# Altium schematic symbol library KNR_Kurs.SchLib: 163 symbols (part 2 of 2)
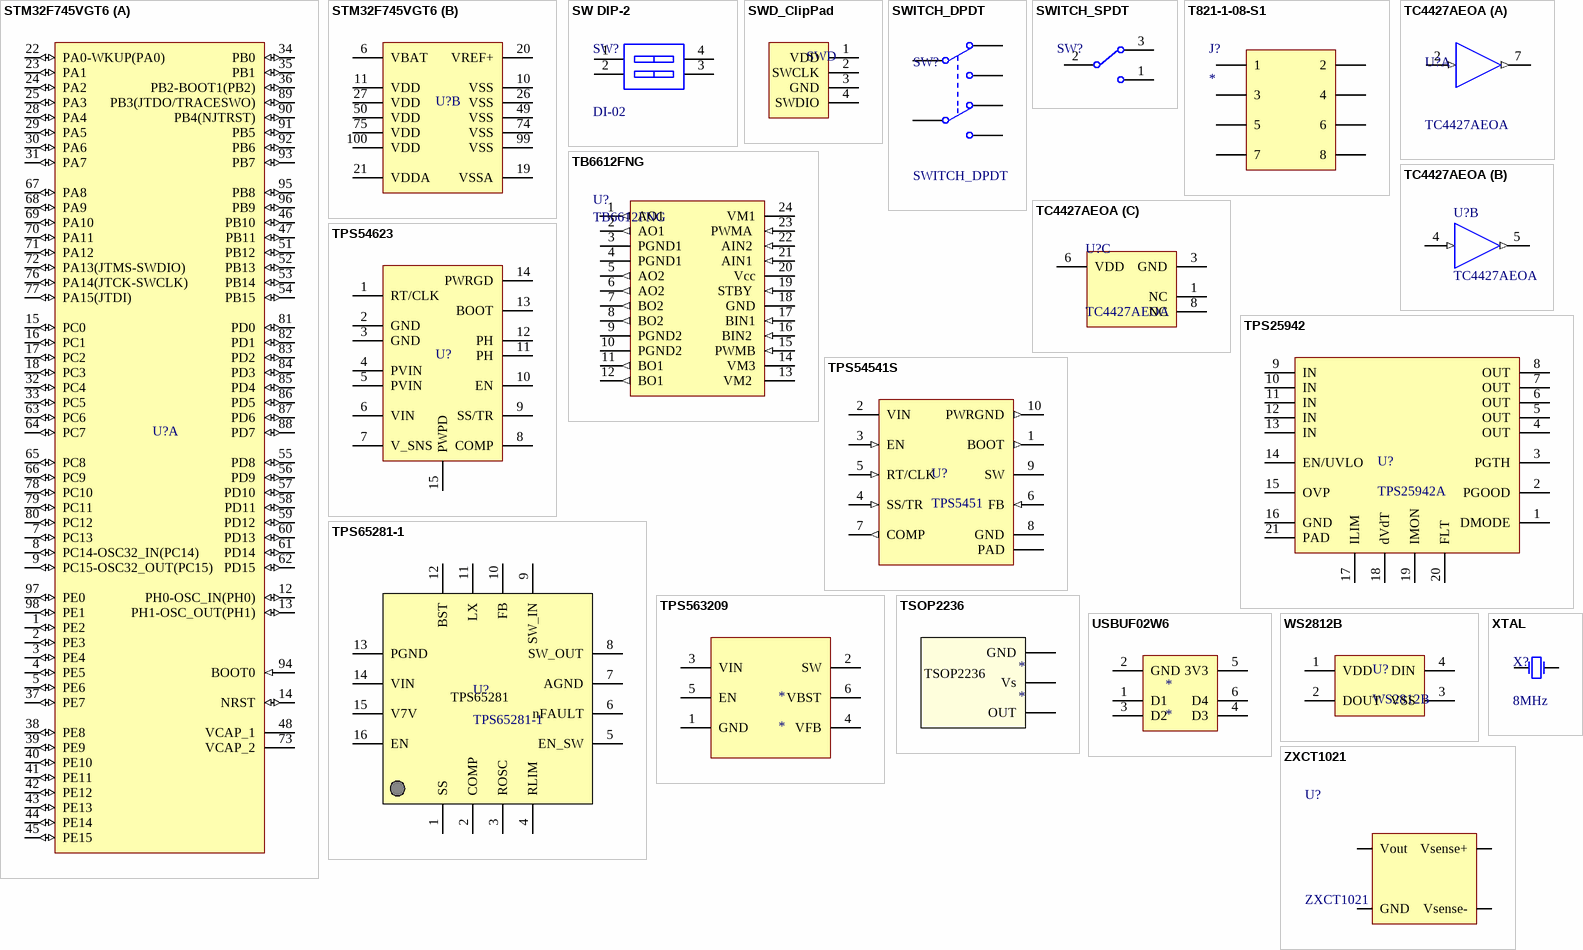
[diagram p5: symbols STM32F745VGT6 to ZXCT1021]

## STM32F745VGT6
designator U?
ARM Cortex-M7 32-bit MCU+S-FPU, 462 DMIPS, 1024 kB Flash, 320 kB Internal RAM, 82 I/Os, 100-pin LQFP, -40 to 85 degC, Tray
footprint STM-LQFP100_N (Thin QFP, 100-Leads, Body 14x14mm, Pitch 0.5mm, IPC Medium Density)
footprint STM-LQFP100_L (Thin QFP, 100-Leads, Body 14x14mm, Pitch 0.5mm, IPC High Density)
footprint STM-LQFP100_M (Thin QFP, 100-Leads, Body 14x14mm, Pitch 0.5mm, IPC Low Density)
footprint STM-LQFP100_V (Thin QFP, 100-Leads, Body 14x14mm, Pitch 0.5mm, ST Recommended)
part A pins: 1 PE2 (io) "PE2/TRACECLK,FSMC_A23,ETH_MII_TXD3,EVENTOUT,SPI4_SCK", 2 PE3 (io) "PE3/TRACED0,FSMC_A19,EVENTOUT,SPI4_NSS", 3 PE4 (io) "PE4/TRACED1,FSMC_A20,DCMI_D4,EVENTOUT,SPI4_NSS", 4 PE5 (io) "PE5/TRACED2,FSMC_A21,TIM9_CH1,DCMI_D6,EVENTOUT,SPI4_MISO", 5 PE6 (io) "PE6/TRACED3,FSMC_A22,TIM9_CH2,DCMI_D7,EVENTOUT,SPI4_MOSI", 7 PC13 (io) "PC13/EVENTOUT/RTC_OUT,RTC_TAMP1,RTC_TS", 8 PC14-OSC32_IN(PC14) (io) "PC14-OSC32_IN(PC14)/EVENTOUT/OSC32_IN", 9 PC15-OSC32_OUT(PC15) (io) "PC15-OSC32_OUT(PC15)/EVENTOUT/OSC32_OUT", 12 PH0-OSC_IN(PH0) (io) "PH0-OSC_IN(PH0)/EVENTOUT/OSC_IN", 13 PH1-OSC_OUT(PH1) (io) "PH1-OSC_OUT(PH1)/EVENTOUT/OSC_OUT", 14 NRST (io), 15 PC0 (io) "PC0/OTG_HS_ULPI_STP,EVENTOUT/ADC123_IN10", 16 PC1 (io) "PC1/ETH_MDC,EVENTOUT/ADC123_IN11", 17 PC2 (io) "PC2/SPI2_MISO,OTG_HS_ULPI_DIR,ETH_MII_TXD2,I2S2ext_SD,EVENTOUT/ADC123_IN12", 18 PC3 (io) "PC3/SPI2_MOSI/I2S2_SD,OTG_HS_ULPI_NXT,ETH_MII_TX_CLK,EVENTOUT/ADC123_IN13", 22 PA0-WKUP(PA0) (io) "PA0-WKUP(PA0)/USART2_CTS,UART4_TX,ETH_MII_CRS,TIM2_CH1_ETR,TIM5_CH1,TIM8_ETR,EVENTOUT/ADC123_IN0,WKUP", 23 PA1 (io) "PA1/USART2_RTS,UART4_RX,ETH_RMII_REF_CLK,ETH_MII_RX_CLK,TIM5_CH2,TIMM2_CH2,EVENTOUT/ADC123_IN1", 24 PA2 (io) "PA2/USART2_TX,TIM5_CH3,TIM9_CH1,TIM2_CH3,ETH_MDIO,EVENTOUT/ADC123_IN2", 25 PA3 (io) "PA3/USART2_RX,TIM5_CH4,TIM9_CH2,TIM2_CH4,OTG_HS_ULPI_D0,ETH_MII_COL,EVENTOUT/ADC123_IN3", 28 PA4 (io) "PA4/SPI1_NSS,SPI3_NSS,USART2_CK,DCMI_HSYNC,OTG_HS_SOF,I2S3_WS,EVENTOUT/ADC12_IN4,DAC1_OUT", 29 PA5 (io) "PA5/SPI1_SCK,OTG_HS_ULPI_CK,TIM2_CH1_ETR,TIM8_CH1N,EVENTOUT/ADC12_IN5,DAC2_OUT", 30 PA6 (io) "PA6/SPI1_MISO,TIM8_BKIN,TIM13_CH1,DCMI_PIXCLK,TIM3_CH1,TIM1_BKIN,EVENTOUT/ADC12_IN6", 31 PA7 (io) "PA7/SPI1_MOSI,TIM8_CH1N,TIM14_CH1,TIM3_CH2,ETH_MII_RX_DV,TIM1_CH1N,ETH_RMII_CRS_DV,EVENTOUT/ADC12_IN7", 32 PC4 (io) "PC4/ETH_RMII_RX_D0,ETH_MII_RX_D0,EVENTOUT/ADC12_IN14", 33 PC5 (io) "PC5/ETH_RMII_RX_D1,ETH_MII_RX_D1,EVENTOUT/ADC12_IN15", 34 PB0 (io) "PB0/TIM3_CH3,TIM8_CH2N,OTG_HS_ULPI_D1,ETH_MII_RXD2,TIM1_CH2N,EVENTOUT/ADC12_IN8", 35 PB1 (io) "PB1/TIM3_CH4,TIM8_CH3N,OTG_HS_ULPI_D2,ETH_MII_RXD3,TIM1_CH3N,EVENTOUT/ADC12_IN9", 36 PB2-BOOT1(PB2) (io) "PB2-BOOT1(PB2)/EVENTOUT", 37 PE7 (io) "PE7/FSMC_D4,TIM1_ETR,EVENTOUT,UART7_RX", 38 PE8 (io) "PE8/FSMC_D5,TIM1_CH1N,EVENTOUT,UART7_TX", 39 PE9 (io) "PE9/FSMC_D6,TIM1_CH1,EVENTOUT", 40 PE10 (io) "PE10/FSMC_D7,TIM1_CH2N,EVENTOUT", 41 PE11 (io) "PE11/FSMC_D8,TIM1_CH2,EVENTOUT,SPI4_NSS", 42 PE12 (io) "PE12/FSMC_D9,TIM1_CH3N,EVENTOUT,SPI4_SCK", 43 PE13 (io) "PE13/FSMC_D10,TIM1_CH3,EVENTOUT,SPI4_MISO", 44 PE14 (io) "PE14/FSMC_D11,TIM1_CH4,EVENTOUT,SPI4_MOSI", 45 PE15 (io) "PE15/FSMC_D12,TIM1_BKIN,EVENTOUT", 46 PB10 (io) "PB10/SPI2_SCK/I2S2_CK,I2C2_SCL,USART3_TX,OTG_HS_ULPI_D3,ETH_MII_RX_ER,TIM2_CH3,EVENTOUT", 47 PB11 (io) "PB11/I2C2_SDA,USART3_RX,OTG_HS_ULPI_D4,ETH_RMII_TX_EN,ETH_MII_TX_EN,TIM2_CH4,EVENTOUT", 48 VCAP_1 (power), 51 PB12 (io) "PB12/SPI2_NSS/I2S2_WS,I2C2_SMBA,USART3_CK,TIM1_BKIN,CAN2_RX,OTG_HS_ULPI_D5,ETH_RMII_TXD0,ETH_MII_TXD0,OTG_HS_ID,EVENTOUT", 52 PB13 (io) "PB13/SPI2_SCK/I2S2_CK,USART3_CTS,TIM1_CH1N,CAN2_TX,OTG_HS_ULPI_D6,ETH_RMII_TXD1,ETH_MII_TXD1,EVENTOUT/OTG_HS_VBUS", 53 PB14 (io) "PB14/SPI2_MISO,TIM1_CH2N,TIM12_CH1,OTG_HS_DM,USART3_RTS,TIM8_CH2N,I2S2ext_SD,EVENTOUT", 54 PB15 (io) "PB15/SPI2_MOSI/I2S2_SD,TIM1_CH3N,TIM8_CH3N,TIM12_CH2,OTG_HS_DP,EVENTOUT,RTC_REFIN", 55 PD8 (io) "PD8/FSMC_D13,USART3_TX,EVENTOUT", 56 PD9 (io) "PD9/FSMC_D14,USART3_RX,EVENTOUT", 57 PD10 (io) "PD10/FSMC_D15,USART3_CK,EVENTOUT", 58 PD11 (io) "PD11/FSMC_CLE,FSMC_A16,USART3_CTS,EVENTOUT", 59 PD12 (io) "PD12/FSMC_ALE,FSMC_A17,TIM4_CH1,USART3_RTS,EVENTOUT", 60 PD13 (io) "PD13/FSMC_A18,TIM4_CH2,EVENTOUT", 61 PD14 (io) "PD14/FSMC_D0,TIM4_CH3,EVENTOUT", 62 PD15 (io) "PD15/FSMC_D1,TIM4_CH4,EVENTOUT", 63 PC6 (io) "PC6/I2S2_MCK,TIM8_CH1,SDIO_D6,USART6_TX,DCMI_D0,TIM3_CH1,EVENTOUT", 64 PC7 (io) "PC7/I2S3_MCK,TIM8_CH2,SDIO_D7,USART6_RX,DCMI_D1,TIM3_CH2,EVENTOUT", 65 PC8 (io) "PC8/TIM8_CH3,SDIO_D0,TIM3_CH3,USART6_CK,DCMI_D2,EVENTOUT", 66 PC9 (io) "PC9/I2S_CKIN,MCO2,TIM8_CH4,SDIO_D1,I2C3_SDA,DCMI_D3,TIM3_CH4,EVENTOUT", 67 PA8 (io) "PA8/MCO1,USART1_CK,TIM1_CH1,I2C3_SCL,OTG_FS_SOF,EVENTOUT", 68 PA9 (io) "PA9/USART1_TX,TIM1_CH2,I2C3_SMBA,DCMI_D0,EVENTOUT/OTG_FS_VBUS", 69 PA10 (io) "PA10/USART1_RX,TIM1_CH3,OTG_FS_ID,DCMI_D1,EVENTOUT", 70 PA11 (io) "PA11/USART1_CTS,CAN1_RX,TIM1_CH4,OTG_FS_DM,EVENTOUT", 71 PA12 (io) "PA12/USART1_RTS,CAN1_TX,TIM1_ETR,OTG_FS_DP,EVENTOUT", 72 PA13(JTMS-SWDIO) (io) "PA13(JTMS-SWDIO)/JTMS-SWDIO,EVENTOUT", 73 VCAP_2 (power), 76 PA14(JTCK-SWCLK) (io) "PA14(JTCK-SWCLK)/JTCK-SWCLK,EVENTOUT", 77 PA15(JTDI) (io) "PA15(JTDI)/JTDI,SPI3_NSS,I2S3_WS,TIM2_CH1_ETR,SPI1_NSS,EVENTOUT", 78 PC10 (io) "PC10/SPI3_SCK/I2S3_CK,UART4_TX,SDIO_D2,DCMI_D8,USART3_TX,EVENTOUT", 79 PC11 (io) "PC11/UART4_RX,SPI3_MISO,SDIO_D3,DCMI_D4,USART3_RX,I2S3ext_SD,EVENTOUT", 80 PC12 (io) "PC12/UART5_TX,SDIO_CK,DCMI_D9,SPI3_MOSI,I2S3_SD,USART3_CK,EVENTOUT", 81 PD0 (io) "PD0/FSMC_D2,CAN1_RX,EVENTOUT", 82 PD1 (io) "PD1/FSMC_D3,CAN1_TX,EVENTOUT", 83 PD2 (io) "PD2/TIM3_ETR,UART5_RX,SDIO_CMD,DCMI_D11,EVENTOUT", 84 PD3 (io) "PD3/FSMC_CLK,USART2_CTS,EVENTOUT,SPI2_SCK,I2S2_CK,DCMI_D5", 85 PD4 (io) "PD4/FSMC_NOE,USART2_RTS,EVENTOUT", 86 PD5 (io) "PD5/FSMC_NWE,USART2_TX,EVENTOUT", 87 PD6 (io) "PD6/FSMC_NWAIT,USART2_RX,EVENTOUT,SPI3_MOSI,I2S3_MOSI,DCMI_D10", 88 PD7 (io) "PD7/USART2_CK,FSMC_NE1,FSMC_NCE2,EVENTOUT", 89 PB3(JTDO/TRACESWO) (io) "PB3(JTDO/TRACESWO)/JTDO/TRACESWO,SPI3_SCK/I2S3_CK,TIM2_CH2,SPI1_SCK,EVENTOUT", 90 PB4(NJTRST) (io) "PB4(NJTRST)/NJTRST,SPI3_MISO,TIM3_CH1,SPI1_MISO,I2S3ext_SD,EVENTOUT", 91 PB5 (io) "PB5/I2C1_SMBA,CAN2_RX,OTG_HS_ULPI_D7,ETH_PPS_OUT,TIM3_CH2,SPI1_MOSI,SPI3_MOSI,DCMI_D10,I2S3_SD,EVENTOUT", 92 PB6 (io) "PB6/I2C1_SCL,TIM4_CH1,CAN2_TX,DCMI_D5,USART1_TX,EVENTOUT", 93 PB7 (io) "PB7/I2C1_SDA,FSMC_NL(NADV),DCMI_VSYNC,USART1_RX,TIM4_CH2,EVENTOUT", 94 BOOT0 (in) "BOOT0/VPP", 95 PB8 (io) "PB8/TIM4_CH3,SDIO_D4,TIM10_CH1,DCMI_D6,ETH_MII_TXD3,I2C1_SCL,CAN1_RX,EVENTOUT", 96 PB9 (io) "PB9/SPI2_NSS/I2S2_WS,TIM4_CH4,TIM11_CH1,SDIO_D5,DCMI_D7,I2C1_SDA,CAN1_TX,EVENTOUT", 97 PE0 (io) "PE0/TIM4_ETR,FSMC_NBL0,DCMI_D2,EVENTOUT,UART8_RX", 98 PE1 (io) "PE1/FSMC_NBL1,DCMI_D3,EVENTOUT,UART8_TX"
part B pins: 6 VBAT (power), 10 VSS (power), 11 VDD (power), 19 VSSA (power), 20 VREF+ (power), 21 VDDA (power), 26 VSS (power), 27 VDD (power), 49 VSS (power), 50 VDD (power), 74 VSS (power), 75 VDD (power), 99 VSS (power), 100 VDD (power)

## SW DIP-2
designator SW?, comment DI-02
DIP Switch, 2 Position, SPST; Published: 24-Mar-1999; LatestRevisionDate: 17-Jul-2002; LatestRevisionNote: Re-released for DXP Platform.; PackageReference: DIP-4; Publisher: Altium Limited
footprint DI-02 (DIP Switch, 2 Position, Package)
pins: 1 A1, 2 A2, 3 B2, 4 B1

## SWD_ClipPad
designator SWD  (value not drawn)
footprint SWD_Pad
pins: 1 VDD, 2 SWCLK, 3 GND, 4 SWDIO

## SWITCH_DPDT
designator SW?
Double pole, double throw; Published: 24-Mar-1999; LatestRevisionDate: 29-May-2009; LatestRevisionNote: IPC-7351 Footprint Added.; PackageVersion: Mar-2001; PackageReference: SOT23-6; Publisher: Altium Limited; PackageDescription: 6-Pin SOT-23 Package 0.95 mm Pitch, 2.7 mm Lead Span; Code_JEITA: SC-74; Code_IPC: SOT26A-6
footprint DPDT (Double pole, double throw)
footprint SS008B02P22 (Przełącznik suwakowy SS008B02P22)
pins: 1 COMMON1, 2 NC1, 3 NO1, 4 NC2, 5 COMMON2, 6 NO2

## SWITCH_SPDT
designator SW?  (value not drawn)
Single pole, double throw
footprint SP3T (SP3T ON-OFF-ON switch)
footprint ESP1010 (ON - ON Switch tht vertical)
footprint ESP2010 (ON - ON Switch tht)
pins: 1, 2, 3

## T821-1-08-S1
designator J?
Gniazdo; IDC; męskie; PIN:8; proste; THT; złocony; 2,54mm
footprint T821-1-08-S1 (T821-1-08-S1 8 Pin, Men)
pins: 1, 2, 3, 4, 5, 6, 7, 8

## TB6612FNG
designator U?
Driver IC for Dual DC motor
footprint SSOP24-P-300 (SSOP, 24-Leads, Body 8,3x5,8mm (max), Pitch 0,65mm, IPC Medium Density)
pins: 1 AO1 (out) "chA output1", 2 AO1 (out) "chA output1", 3 PGND1  "Power GND 1", 4 PGND1  "Power GND 1", 5 AO2  (out) "chA output2", 6 AO2  (out) "chA output2", 7 BO2  (out) "chB output2", 8 BO2  (out) "chB output2", 9 PGND2 "Power GND 2", 10 PGND2 "Power GND 2", 11 BO1 (out) "chB output1", 12 BO1 (out) "chB output1", 13 VM2  (power) "Motor supply(2.5V~13.5V)", 14 VM3 (power) "Motor supply(2.5V~13.5V)", 15 PWMB (in) "chB PWM input    /    200kOhm  pull-down at internal", 16  BIN2  (in) "chB input2    /    200k?  pull-down at internal", 17  BIN1 (in) "chB input    /    200k?  pull-down at internal", 18 GND "Small signal GND", 19 STBY  (in) "“L”=standby / 200k?  pull-down at internal", 20 Vcc "Small signal supply (2.7V~5.5V)", 21  AIN1  (in) "chA input1    /    200k?  pull-down at internal", 22  AIN2  (in) "chA input2    /    200k?  pull-down at internal", 23 PWMA  (in) "chA PWM input    /    200k?  pull-down at internal", 24 VM1 (power) "Motor supply(2.5V~13.5V)"

## TC4427AEOA
designator U?
1.5A Dual High-Speed Power MOSFET Driver, Non-Inverting, Industrial Temperature; FirstPublished: 29-Jan-2009; DatasheetVersion: revF, Jan-2006; PackageVersion: revBB, Aug-2009; PackageReference: SOIC-OA8; Publisher: Altium Limited; PackageDescription: 8-Lead Plastic Small Outline (OA) - Narrow, 3.90mm Body [SOIC]; Supplier 1: Digi-Key; Supplier Part Number 1: TC4427AEOA-ND; Supplier 2: Farnell; Supplier Part Number 2: 1292285; Supplier 3: Newark; Supplier Part Number 3: 96K4020; Code_IPC: SOIC127P600-8; ComponentLink1Description: Datasheet; ComponentLink1URL: http://ww1.microchip.com/downloads/en/DeviceDoc/21423F.pdf; ComponentLink2Description: Packaging Specification; ComponentLink2URL: http://www.microchip.com/stellent/groups/techpub_sg/documents/packagingspec/en012702.pdf; ComponentLink3Description: Microchip.com Home; ComponentLink3URL: http://www.microchip.com/
footprint SO-8_N
part A pins: 2 INA (in), 7 OUTA (out)
part B pins: 4 INB (in), 5 OUTB (out)
part C pins: 1 NC, 3 GND (power), 6 VDD (power), 8 NC

## TPS25942
designator U?, comment TPS25942A
footprint WQFN20
pins: 1 DMODE, 2 PGOOD, 3 PGTH, 4 OUT, 5 OUT, 6 OUT, 7 OUT, 8 OUT, 9 IN, 10 IN, 11 IN, 12 IN, 13 IN, 14 EN/UVLO, 15 OVP, 16 GND, 17 ILIM, 18 dVdT, 19 IMON, 20 FLT, 21 PAD

## TPS54541S
designator U?, comment TPS5451
footprint S-PWSON-N10
pins: 0 PAD, 1 BOOT (out), 2 VIN, 3 EN (in), 4 SS/TR (in), 5 RT/CLK (in), 6 FB (in), 7 COMP (out), 8 GND, 9 SW, 10 PWRGND (out)

## TPS54623
designator U?  (value not drawn)
footprint S-PVQFN-N14
pins: 1 RT/CLK, 2 GND, 3 GND, 4 PVIN, 5 PVIN, 6 VIN, 7 V_SNS, 8 COMP, 9 SS/TR, 10 EN, 11 PH, 12 PH, 13 BOOT, 14 PWRGD, 15 PWPD

## TPS65281-1
designator U?
pins: 1 SS, 2 COMP, 3 ROSC, 4 RLIM, 5 EN_SW, 6 nFAULT, 7 AGND, 8 SW_OUT, 9 SW_IN, 10 FB, 11 LX, 12 BST, 13 PGND, 14 VIN, 15 V7V, 16 EN
text: TPS65281

## TPS563209
designator *
footprint MK06A_N (SOT23, 6-Leads, Body 3.0x1.7mm, Pitch 0.95mm, Lead Span 2.9mm, IPC Medium Density)
pins: 1 GND, 2 SW, 3 VIN, 4 VFB, 5 EN, 6 VBST

## TSOP2236
designator *
footprint TO92 (TO, Flat Index; 3 In-Line, Axial Leads; Body Dia. 4.8mm; Leads 0.51 x 0.51 mm (max))
pins: 1 GND, 2 Vs, 3 OUT

## USBUF02W6
designator *
footprint SOT323-6L (SOT23, 6-Leads, Body 2,00x2,10mm, Pitch 0,65mm, IPC High Density)
pins: 1 D1, 2 GND, 3 D2, 4 D3, 5 3V3, 6 D4

## WS2812B
designator U?
footprint WS2812B
pins: 1 VDD, 2 DOUT, 3 VSS, 4 DIN

## XTAL
designator X?, comment 8MHz
Oscillator; Unit Price1: *; Unit Price2: *; Value: 8MHz
footprint HC49/4H_SMX (Quartz Crystal, SM; Body 13.4 (inc. leads) x 4.9 mm (LxW max))
footprint HC49-4H_THT (HC49-4H package for oscillator)
pins: 1 OSC1, 2 OSC2

## ZXCT1021
designator U?
Low offset high-side current monitor
footprint SOT23-5_N (SOT23, 5-Leads, Body 2.9x1.6mm, Pitch 0.95mm, Lead Span 2.8mm, IPC Medium Density)
pins: 1 Flag hidden, 2 GND, 3 Vout, 4 Vsense+, 5 Vsense-